# Altium footprint library SOD-80.PcbLib: 1 footprints
Each footprint in its own frame and in the unit in brackets; x right, y up, seen from the top. Pads: shape width x height; smd on the part's side, far side on the other; paste and mask are expansions set on the pad; w line width, h text height; cw(c..) or ccw(c..) is an arc to the next point about the centre after c.
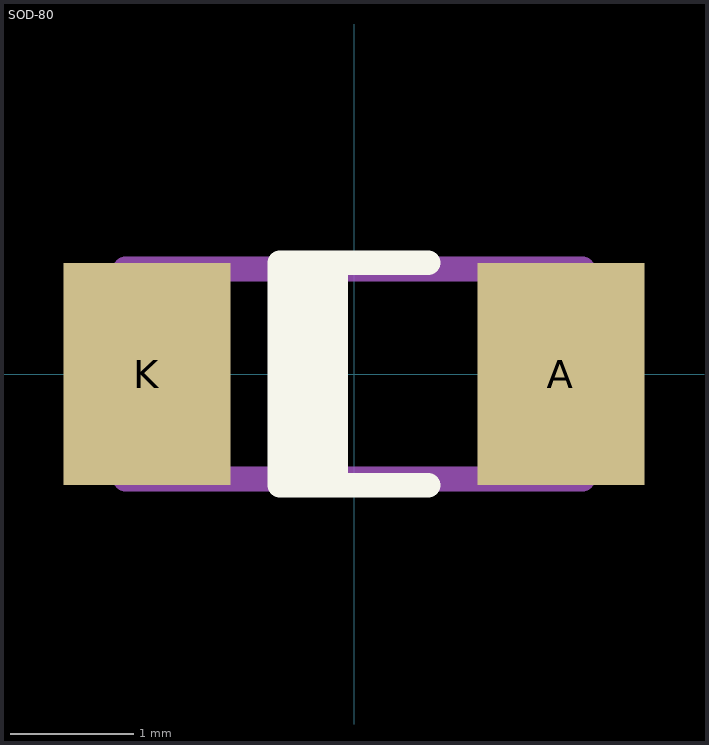
[diagram p0: the footprint, top view; thin cyan lines are the x and y axes]

## SOD-80 [mm] "MELF Diode, 2-Leads, Body 3,5x1,5mm, IPC Medium Density"
height 1.7
pads (2):
  rect 1.35x1.8 smd: A(1.675,0) K(-1.675,0)
Top Overlay:
  rectangle: -0.6,-0.9 -0.05,0.9
  lines w0.2: 0.6,-0.9 -0.6,-0.9 -0.6,0.9 0.6,0.9
Mechanical 13:
  rectangle: -1.85,-0.85 -1.352,0.85
  lines w0.2: -1.85,-0.85 1.85,-0.85 1.85,0.85 -1.85,0.85 -1.85,-0.85
  text ".Designator" at -2.032,1.016 h2.5
3D body: height 1.45, standoff -0.05, extent -1.75,-0.762 1.75,0.738